# Altium footprint library OperationalAmplifiers.PcbLib: 1 footprints
Each footprint in its own frame and in the unit in brackets; x right, y up, seen from the top. Pads: shape width x height; smd on the part's side, far side on the other; paste and mask are expansions set on the pad; w line width, h text height; cw(c..) or ccw(c..) is an arc to the next point about the centre after c.
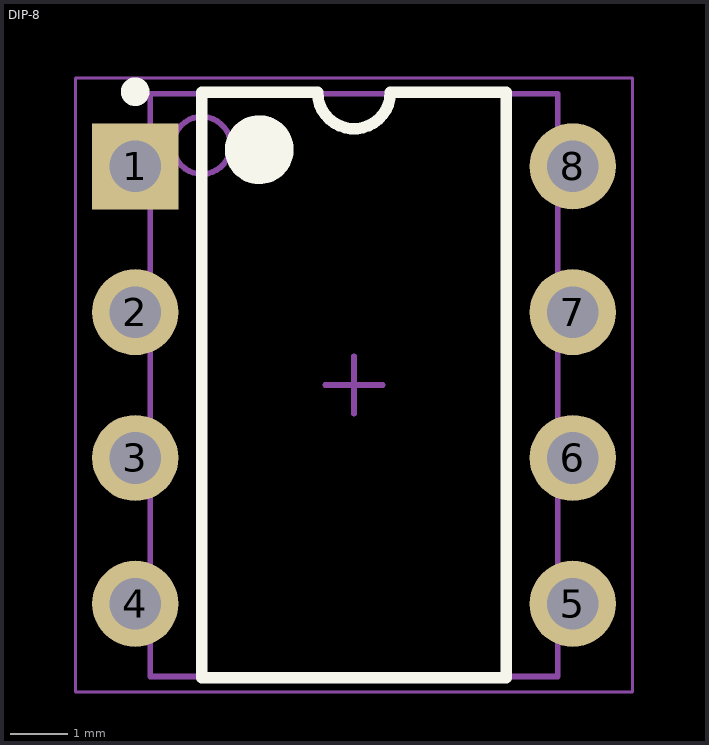
[diagram p0: the footprint, top view; thin cyan lines are the x and y axes]

## DIP-8 [mm]
pads (8):
  rect 1.5x1.5 hole 0.9: 1(-1264.539,-1259.332)
  round 1.5 hole 0.9: 2(-1264.539,-1261.872) 3(-1264.539,-1264.412) 4(-1264.539,-1266.952) 5(-1256.919,-1266.952) 6(-1256.919,-1264.412) 7(-1256.919,-1261.872) 8(-1256.919,-1259.332)
Top Overlay:
  circle w0.6: c-1262.379,-1259.042 r0.3
  circle w0.25: c-1264.539,-1258.032 r0.125
  lines w0.2: -1263.379,-1268.242 -1258.079,-1268.242 -1258.079,-1258.042 -1260.094,-1258.042 cw(c-1260.729,-1258.042) -1261.364,-1258.042 -1263.379,-1258.042 -1263.379,-1268.242
Mechanical 13:
  circle w0.1: c-1263.379,-1258.967 r0.5
  lines w0.1: -1264.279,-1268.217 -1257.179,-1268.217 -1257.179,-1258.067 -1264.279,-1258.067 -1264.279,-1268.217
Mechanical 15:
  lines w0.05: -1265.579,-1268.492 -1255.879,-1268.492 -1255.879,-1257.792 -1265.579,-1257.792 -1265.579,-1268.492
  lines w0.1: -1261.229,-1263.142 -1260.229,-1263.142 ; -1260.729,-1263.642 -1260.729,-1262.642
3D body: height 5.33, standoff 0.38, extent -1264.279,-1268.217 -1257.179,-1258.067
3D body: height 0, standoff -1.6, extent -1257.054,-1259.692 -1256.784,-1258.972
3D body: height 2.99, standoff 2.72, extent -1257.179,-1259.832 -1256.784,-1258.832
3D body: height 2.72, standoff 0, extent -1257.054,-1259.832 -1256.784,-1258.832
3D body: height 0, standoff -1.6, extent -1257.054,-1262.232 -1256.784,-1261.512
3D body: height 2.99, standoff 2.72, extent -1257.179,-1262.372 -1256.784,-1261.372
3D body: height 2.72, standoff 0, extent -1257.054,-1262.372 -1256.784,-1261.372
3D body: height 0, standoff -1.6, extent -1257.054,-1264.772 -1256.784,-1264.052
3D body: height 2.99, standoff 2.72, extent -1257.179,-1264.912 -1256.784,-1263.912
3D body: height 2.72, standoff 0, extent -1257.054,-1264.912 -1256.784,-1263.912
3D body: height 0, standoff -1.6, extent -1257.054,-1267.312 -1256.784,-1266.592
3D body: height 2.99, standoff 2.72, extent -1257.179,-1267.452 -1256.784,-1266.452
3D body: height 2.72, standoff 0, extent -1257.054,-1267.452 -1256.784,-1266.452
3D body: height 0, standoff -1.6, extent -1264.674,-1267.312 -1264.404,-1266.592
3D body: height 2.99, standoff 2.72, extent -1264.674,-1267.452 -1264.279,-1266.452
3D body: height 2.72, standoff 0, extent -1264.674,-1267.452 -1264.404,-1266.452
3D body: height 0, standoff -1.6, extent -1264.674,-1264.772 -1264.404,-1264.052
3D body: height 2.99, standoff 2.72, extent -1264.674,-1264.912 -1264.279,-1263.912
3D body: height 2.72, standoff 0, extent -1264.674,-1264.912 -1264.404,-1263.912
3D body: height 0, standoff -1.6, extent -1264.674,-1262.232 -1264.404,-1261.512
3D body: height 2.99, standoff 2.72, extent -1264.674,-1262.372 -1264.279,-1261.372
3D body: height 2.72, standoff 0, extent -1264.674,-1262.372 -1264.404,-1261.372
3D body: height 0, standoff -1.6, extent -1264.674,-1259.692 -1264.404,-1258.972
3D body: height 2.99, standoff 2.72, extent -1264.674,-1259.832 -1264.279,-1258.832
3D body: height 2.72, standoff 0, extent -1264.674,-1259.832 -1264.404,-1258.832